# Altium schematic symbol library IRF9540NPBF.SchLib: 1 symbol
Pins are listed as number, name and electrical type; pins without a type are passive.

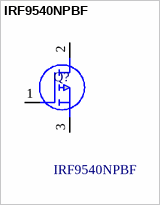
[diagram p0: symbol IRF9540NPBF]

## IRF9540NPBF
designator Q?
Infineon IRF9540NPBF P-channel MOSFET, 23 A, 100 V HEXFET, 3-Pin TO-220AB; Geometry.Height: 4.69mm; Mouser Part Number: 942-IRF9540NPBF; Mouser Price/Stock: https://www.mouser.co.uk/ProductDetail/Infineon-Technologies/IRF9540NPBF?qs=9%252BKlkBgLFf0vnuA8mxUPtw%3D%3D; Manufacturer_Name: Infineon; Manufacturer_Part_Number: IRF9540NPBF; Datasheet Link: https://www.infineon.com/dgdl/irf9540npbf.pdf?fileId=5546d462533600a401535611cfa21dc8
footprint TO254P469X1042X1967-3P
pins: 1 G, 2 D, 3 S (power)